# Altium schematic symbol library dvrk-s-pwm_2.SCHLIB: 58 symbols (part 1 of 2)
Pins are listed as number, name and electrical type; pins without a type are passive.

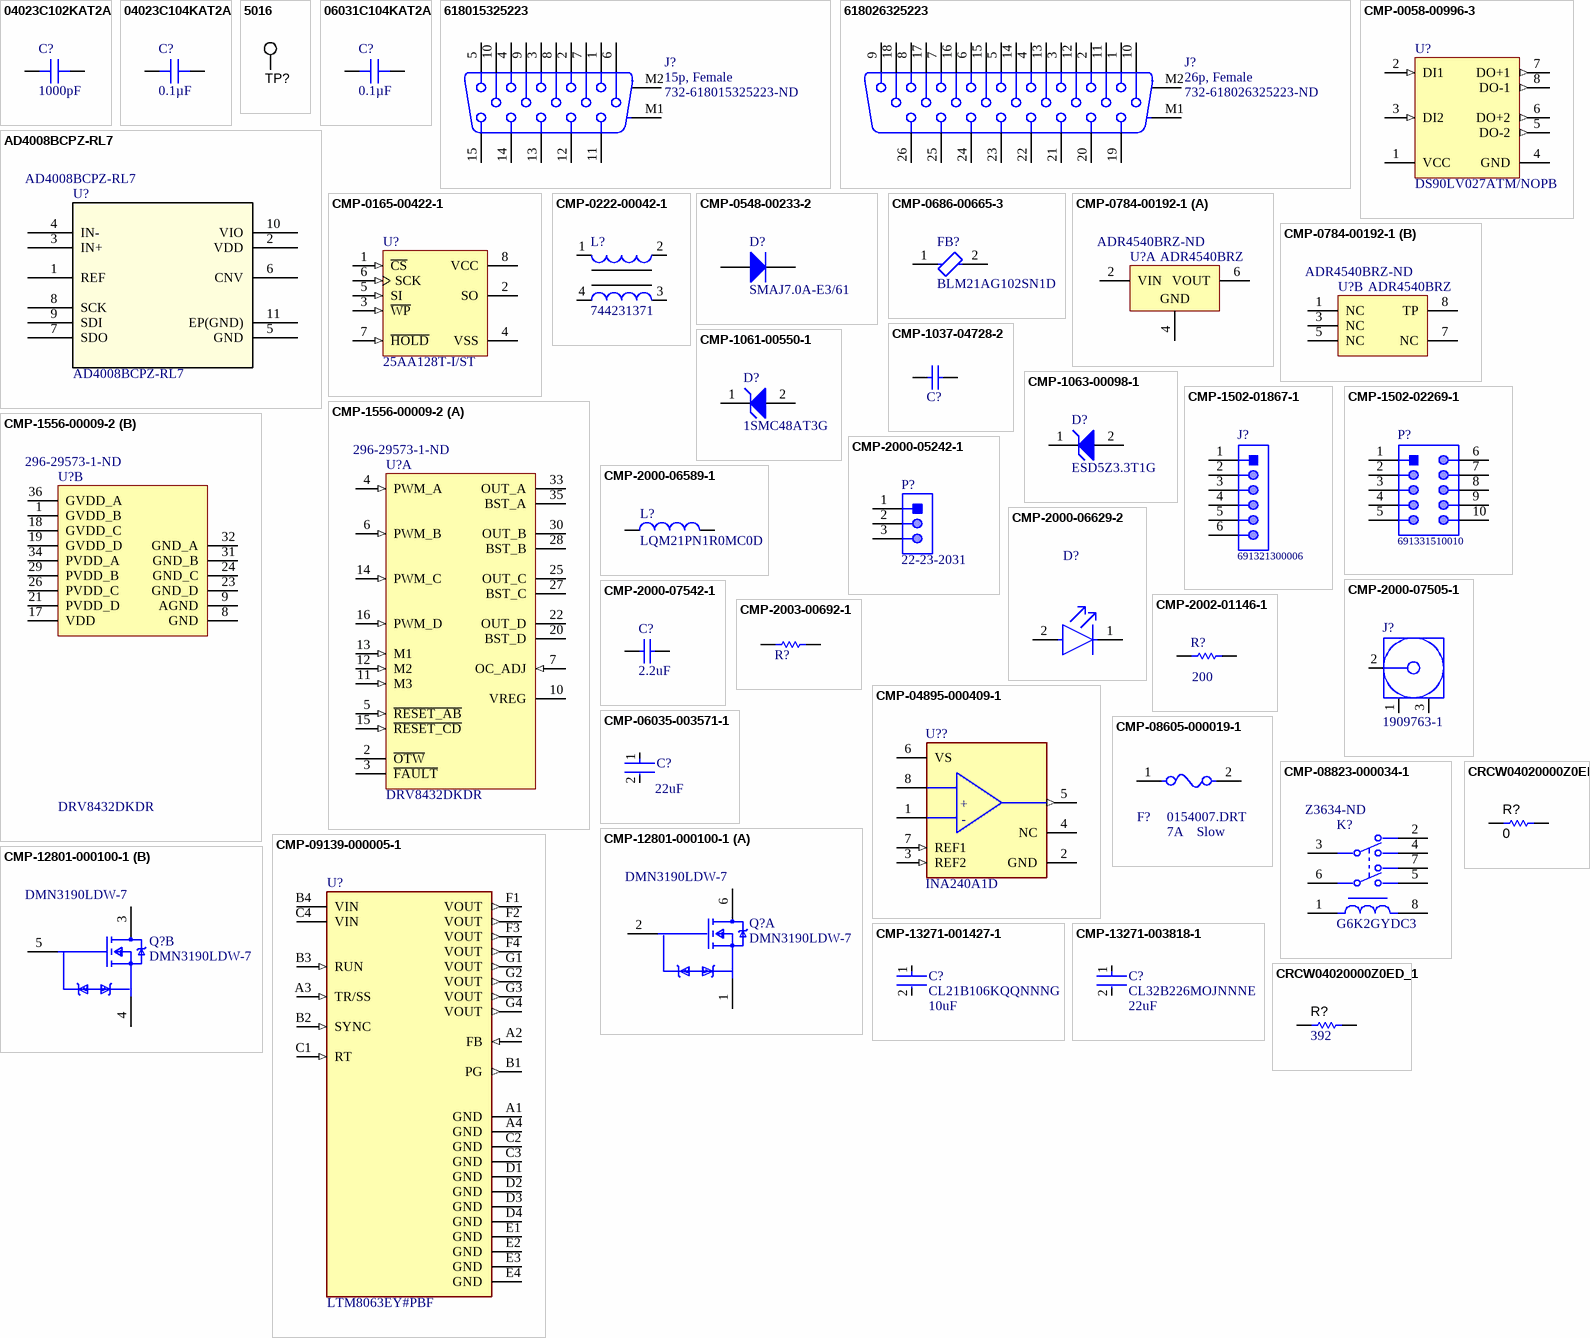
[diagram p0: symbols 04023C102KAT2A to CRCW04020000Z0ED_1]

## 04023C102KAT2A
designator C?, comment 1000pF
CAP CER 1000PF 25V X7R 0402; Manufacturer: AVX Corporation; Part Number: 04023C102KAT2A; Tolerance: ±10%; ComponentLink1Description: Datasheet; ComponentLink1URL: http://datasheets.avx.com/X7RDielectric.pdf; Applications: General Purpose; Capacitance: 1000pF; ComponentLink2Description: DigiKey Link; ComponentLink2URL: http://digikey.com/product-detail/en/avx-corporation/04023C102KAT2A/478-6193-1-ND/2391392; Device Package: 0402 (1005 Metric); LastUpdated: 2020-09-02 01:02:20.597000; Lifecycle Status: Active; Minimum Order: 1; Mounting Type: Surface Mount, MLCC; Operating Temperature: -55°C ~ 125°C; Package / Case: 0402 (1005 Metric); Packaging: TapeAndReel; PartId: 3384; Part Status: Active; Price: 0.01; Series: -; Size / Dimension: 0.039 L x 0.020 W (1.00mm x 0.50mm); Temperature Coefficient: X7R; Thickness (Max): 0.022 (0.56mm); Voltage - Rated: 25V; Supplier 1: DigiKey; Supplier Part Number 1: 478-6193-1-ND; Value: 1000pF
footprint CAP 0402_1005
footprint FP-GRM155-0_05-IPC_B
pins: 1, 2

## 04023C104KAT2A
designator C?, comment 0.1µF
CAP CER 0.1UF 25V X7R 0402; Part Number: 04023C104KAT2A; Manufacturer: AVX Corporation; Tolerance: ±10%; Value: 0.1µF; Applications: General Purpose; Capacitance: 0.1µF; ComponentLink1Description: Datasheet; ComponentLink1URL: http://datasheets.avx.com/X7RDielectric.pdf; ComponentLink2Description: DigiKey Link; ComponentLink2URL: http://digikey.com/product-detail/en/avx-corporation/04023C104KAT2A/478-7868-1-ND/3881491; Device Package: 0402 (1005 Metric); LastUpdated: 9/2/2020 1:02:21 AM; Lifecycle Status: Active; Minimum Order: 1; Mounting Type: Surface Mount, MLCC; Operating Temperature: -55°C ~ 125°C; Package / Case: 0402 (1005 Metric); Packaging: CutTape; PartId: 3190; Part Status: Active; Price: 0.13; Series: -; Size / Dimension: 0.039" L x 0.020" W (1.00mm x 0.50mm); Supplier 1: DigiKey; Supplier Part Number 1: 478-7868-1-ND; Temperature Coefficient: X7R; Thickness (Max): 0.022" (0.55mm); Voltage - Rated: 25V
footprint CAP 0402_1005
footprint FP-GRM155-0_05-IPC_B
pins: 1, 2

## 5016
designator TP?  (value not drawn)
Test Point, Compact, SMT; Manufacturer: Keystone; CompType: Test Point Loop; SymbolVersion: 2008-04-04; PartNumber: 5016; PackageReference: Testpoint_Keystone_Compact; RoHS: Y; MountType: SMT; ComponentLink1Description: Datasheet URL; ComponentLink1URL: http://www.keyelco.com/userAssets/store/files/5016.PDF; Publisher: Texas Instruments; LatestRevisionDate: 2016-09-14; Supplier 1: Digi-Key; Supplier Part Number 1: 36-5016TR-ND; Supplier 2: Mouser; Supplier Part Number 2: 534-5016
footprint Testpoint_Keystone_Compact
pins: 1

## 06031C104KAT2A
designator C?, comment 0.1µF
CAP CER 0.1UF 100V X7R 0603; Part Number: 06031C104KAT2A; Manufacturer: AVX Corporation; Tolerance: ±10%; Value: 0.1µF; Applications: General Purpose; Capacitance: 0.1µF; ComponentLink1Description: Datasheet; ComponentLink1URL: http://datasheets.avx.com/X7RDielectric.pdf; ComponentLink2Description: DigiKey Link; ComponentLink2URL: http://digikey.com/product-detail/en/avx-corporation/06031C104KAT2A/478-10047-1-ND/6564270; Device Package: 0603 (1608 Metric); LastUpdated: 9/2/2020 1:03:14 AM; Lifecycle Status: Active; Minimum Order: 1; Mounting Type: Surface Mount, MLCC; Operating Temperature: -55°C ~ 125°C; Package / Case: 0603 (1608 Metric); Packaging: TapeAndReel; PartId: 14077; Part Status: Active; Price: 0.03; Series: -; Size / Dimension: 0.063" L x 0.032" W (1.60mm x 0.81mm); Supplier 1: DigiKey; Supplier Part Number 1: 478-10047-1-ND; Temperature Coefficient: X7R; Thickness (Max): 0.037" (0.94mm); Voltage - Rated: 100V
footprint CAP 0603_1608
footprint FP-GRM188-0_1-e0_2_0_55-IPC_B
pins: 1, 2

## 618015325223
designator J?, comment 15p, Female  Supplier Part Number 1: 732-618015325223-ND
WR-DSUB Female High Density Angled PCB Connector without Hex Screw, 15p; PartNumber: 618015325223; Manufacturer: Wurth Electronics; PinNumber: 15; Published: June 2016; Publisher: Wurth Elektronik; ComponentLink1Description: Manufacturer; ComponentLink1URL: http://www.we-online.de; ComponentLink2Description: Datasheet; ComponentLink2URL: http://katalog.we-online.de/em/datasheet/6180xx325223.pdf; Supplier 1: Digi-Key; Manufacturer Part Number: 618015325223; RoHS: Yes; Category: D-Sub Connectors; Stock 1: 157; Pricing 1: 1=4.02000, 10=3.81000, 50=3.38400, 100=2.95200, 250=2.53200, 500=2.25600 (USD); RoHS Compliant: Yes
footprint 618015325223 (15 pins, right angled with Rivet)
pins: 1, 2, 3, 4, 5, 6, 7, 8, 9, 10, 11, 12, 13, 14, 15, M1, M2

## 618026325223
designator J?, comment 26p, Female  Supplier Part Number 1: 732-618026325223-ND
WR-DSUB Female High Density Angled PCB Connector without Hex Screw, 26p; PartNumber: 618026325223; Manufacturer: Wurth Electronics; PinNumber: 26; Published: June 2016; Publisher: Wurth Elektronik; ComponentLink1Description: Manufacturer; ComponentLink1URL: http://www.we-online.de; ComponentLink2Description: Datasheet; ComponentLink2URL: http://katalog.we-online.de/em/datasheet/6180xx325223.pdf; system: connector; Supplier 1: Digi-Key; Manufacturer Part Number: 618026325223; RoHS: Yes; Stock 1: 325; Pricing 1: 1=8.10000, 10=7.69500, 50=7.15500, 100=6.75000, 250=6.21000, 500=5.40002 (USD); RoHS Compliant: Yes
footprint 618026325223 (26 pins, right angled with Rivet)
pins: 1, 2, 3, 4, 5, 6, 7, 8, 9, 10, 11, 12, 13, 14, 15, 16, 17, 18, 19, 20, 21, 22, 23, 24, 25, 26, M1, M2

## AD4008BCPZ-RL7
designator U?
16-Bit, 2 MSPS/1 MSPS/500 kSPS, / Precision, Pseudo Differential, SAR ADCs; Value: Value; Type: Type; RefDes: RefDes; Supplier 1: Arrow Electronics; Supplier Part Number 1: AD4008BCPZ-RL7
footprint CP_10_9
pins: 1 REF, 2 VDD, 3 IN+, 4 IN-, 5 GND, 6 CNV, 7 SDO, 8 SCK, 9 SDI, 10 VIO, 11 EP(GND)

## CMP-0058-00996-3
designator U?, comment DS90LV027ATM/NOPB
LVDS Dual High Speed Differential Driver, 8-pin Narrow SOIC, Pb-Free; Manufacturer: Texas Instruments; Manufacturer: TI National Semiconductor; PowerWise: N; CompType: Interface IC; PackageTopMarking: NSZXTT*LV27A*TM; ComponentLink1Description: Datasheet URL; Code_JEDEC: MS-012-AA; PinCount: 8; PackageDescription: SOIC Narrow, 4.9 x 3.9 x 1.45mm, 8 Lead, 1.27mm Pitch; RoHS: Y; ComponentLink1URL: http://www.ti.com/general/docs/lit/getliterature.tsp?genericPartNumber=DS90LV027A&fileType=pdf; PackageReference: D0008A; Code_IPC: SOIC127P600-8; Manufacturer Part Number: DS90LV027ATM/NOPB
footprint D0008A_L (SOIC, 8-Leads, Body 5x4mm, Pitch 1.27mm, IPC High Density)
footprint D0008A_N (SOIC, 8-Leads, Body 5x4mm, Pitch 1.27mm, IPC Medium Density)
footprint D0008A_M (SOIC, 8-Leads, Body 5x4mm, Pitch 1.27mm, IPC Low Density)
pins: 1 VCC (power), 2 DI1 (in), 3 DI2 (in), 4 GND (power), 5 DO-2 (out), 6 DO+2 (out), 7 DO+1 (out), 8 DO-1 (out)

## CMP-0165-00422-1
designator U?, comment 25AA128T-I/ST
128K SPI Bus Serial EEPROM, 8-Pin TSSOP, Industrial Temperature, Tape and Reel; Manufacturer: Microchip; PackageVersion: revBB, Aug-2009; PackageDescription: 8-Lead Plastic Thin Shrink Small Outline (ST) - 4.4mm Body [TSSOP]; Code_JEDEC: MO-153; DatasheetVersion: revD, Jun-2009; PackageReference: TSSOP-ST8; Manufacturer Part Number: 25AA128T-I/ST
footprint TSSOP-ST8_M (TSOP, 8-Leads, Body 3x4.4mm, Pitch 0.65mm, IPC Low Density)
footprint TSSOP-ST8_L (TSOP, 8-Leads, Body 3x4.4mm, Pitch 0.65mm, IPC High Density)
footprint TSSOP-ST8_N (TSOP, 8-Leads, Body 3x4.4mm, Pitch 0.65mm, IPC Medium Density)
pins: 1 ~{CS} (in), 2 SO (hiz), 3 ~{WP} (in), 4 VSS (power), 5 SI (in), 6 SCK (in), 7 ~{HOLD} (in), 8 VCC (power)

## CMP-0222-00042-1
designator L?, comment 744231371
SMD Common Mode Noise Suppressor WE-CNSW, Z = 370 Ohm; Manufacturer: Wurth Electronics; Impedance: 370 Ohm; ComponentLink2URL: http://www.we-online.de/katalog/media/pdf/744231371.pdf; ComponentLink1Description: Manufacturer Link; PackageReference: WE-CNSW-0805; PackageDescription: SMD Inductor, 4-Leads, Body 1.4 x 2.2 mm; ComponentLink2Description: Datasheet; DatasheetVersion: ver 4, Nov-2010; ComponentLink1URL: http://www.we-online.com; PackageVersion: 2010; Manufacturer Part Number: 744231371
footprint WE-CNSW-0805 (SMD Inductor, 4-Leads, Body 1.4x2.2x1.4 mm)
pins: 1, 2, 3, 4

## CMP-0548-00233-2
designator D?, comment SMAJ7.0A-E3/61
Transient Voltage Suppressor, 6.40 to 231 V, 7 V Stand-off Voltage, Uni-Directional, -55 to 155 degC, 2-pin DO-214AC, Pb-Free, Tape and Reel; Manufacturer: Vishay Semiconductor; Manufacturer: Vishay Semiconductors; IFSM: 40 A; ID (uA): 200; VWM (V): 7; PPPM (W): 400, 300; VBR Uni-Directional (V): 6.4 to 231; Operating Junction and Storage Temperature Range: -55 to 150 degC; ComponentLink2Description: Datasheet; ComponentLink3Description: Package Specification; ComponentLink1URL: http://www.vishay.com/; PackageReference: DO-214AC-2; ComponentLink1Description: Manufacturer URL; PartNumber: SMAJ7.0A-E3/61; Packing: Tape and Reel; Mounting Technology: Surface Mount; PackageDescription: 2-Pin DO-214AC (SMA), Body 4.245 x 2.665 mm; ComponentLink2URL: http://www.vishay.com/docs/88390/smaj50a.pdf; RoHS: TRUE; ComponentLink3URL: http://www.vishay.com/docs/88390/smaj50a.pdf; DatasheetVersion: 12/8/2013; Manufacturer Part Number: SMAJ7.0A-E3/61
footprint VISH-DO-214AC-2_L (DO-214AC, 2-Leads, Body 4.5x2.79mm, IPC High Density)
footprint VISH-DO-214AC-2_N (DO-214AC, 2-Leads, Body 4.5x2.79mm, IPC Medium Density)
footprint VISH-DO-214AC-2_M (DO-214AC, 2-Leads, Body 4.5x2.79mm, IPC Low Density)
pins: 1 K, 2 A

## CMP-0686-00665-3
designator FB?, comment BLM21AG102SN1D
Chip Ferrite Bead, 0805, 1000Ω @ 100MHz, 0.27Ω, 25%, 600mA; Manufacturer: Murata; Material: Steel; Number of Lines: 1; Current Rating: 500mA; Max DC Current: 200mA; Impedance: 1kR; DC Resistance (DCR): 280mR; Shielding: Unshielded; Length: 2mm; Max Current Rating: 600mA; Max Operating Temperature: 125°C; Lead Free: Lead Free; Test Frequency: 100MHz; Number of Pins: 2; Height: 0.85mm; Package Quantity: 1; Termination: SMD/SMT; Depth: 1.25mm; Radiation Hardening: No; Case Code (Metric): 2012; Tolerance: 25%; Core Material: Ferrite; Min Operating Temperature: -55°C; Case Code (Imperial): 0805; Weight: 0.000194oz; DC Current: 200mA; Case/Package: 0805; REACH SVHC: No SVHC; Frequency: 100MHz; Military Standard: Not; Number of Circuits: 1; Width: 1.25mm; Packaging: Tape and Reel; Manufacturer Part Number: BLM21AG102SN1D
footprint FP-BLM21-0_2-t0_85-e0_5-MFG
footprint FP-BLM21-0_2-t0_85-e0_5-IPC_C
footprint FP-BLM21-0_2-t0_85-e0_5-IPC_B
footprint FP-BLM21-0_2-t0_85-e0_5-IPC_A
pins: 1, 2

## CMP-0784-00192-1
designator U?, comment ADR4540BRZ  Supplier Part Number 1: ADR4540BRZ-ND
Ultralow Noise, High Accuracy Voltage Reference, 4.096 V Output, 3 to 15 V Supply, Industrial, 8-pin SOIC (R-8), Tube; Manufacturer: Analog Devices; Max V Supply (V): 15; Min V Supply (V): 3; Vout: 4.096V; Ref Out TC (ppm/C): 2; ComponentLink4URL: Product URL:http://www.analog.com/en/special-linear-functions/voltage-references/adr4540/products/product.html; Mounting Technology: Surface Mount; ComponentLink1Description: Manufacturer URL; PackageDescription: 8-Pin Standard Small Outline Package, Body 4.9 x 3.9 mm, Pitch 1.27 mm; ComponentLink2URL: http://www.analog.com/static/imported-files/data_sheets/ADR4520_4525_4530_4533_4540_4550.pdf; ComponentLink1URL: http://www.analog.com/en/index.html; DatasheetVersion: Rev. 0; ComponentLink4Description: URL Link1; Operating Temp Range: -40 to 125 degC; PartNumber: ADR4540BRZ; ComponentLink2Description: Datasheet; ComponentLink3URL: http://www.analog.com/static/imported-files/packages/PKG_PDF/SOIC_Narrow%20(R)/R_8.pdf; ComponentLink3Description: Package Specification; PackageVersion: 060506-A, 06/2006; Packing: Tube; PackageReference: R-8; Code_JEDEC: MS-012-AA; Supplier 1: Digi-Key; Manufacturer Part Number: ADR4540BRZ
footprint ADI-R-8_M (SOIC, 8-Leads, Body 4.9x3.9mm, Pitch 1.27mm, IPC Low Density)
footprint ADI-R-8_L (SOIC, 8-Leads, Body 4.9x3.9mm, Pitch 1.27mm, IPC High Density)
footprint ADI-R-8_N (SOIC, 8-Leads, Body 4.9x3.9mm, Pitch 1.27mm, IPC Medium Density)
part A pins: 2 VIN (power) "Input Voltage Connection.", 4 GND (power) "Ground.", 6 VOUT (power) "Output Voltage."
part B pins: 1 NC "No Connect. This pin is not connected internally.", 3 NC "No Connect. This pin is not connected internally.", 5 NC "No Connect. This pin is not connected internally.", 7 NC "No Connect. This pin is not connected internally.", 8 TP "Test Pin. Do not connect."

## CMP-1037-04728-2
designator C?, comment 12061C105KAT2A  (value not drawn)
Chip Capacitor, 1 uF, +/- 10%, 100 V, -55 to 125 degC, 1206 (3216 Metric), RoHS, Tape and Reel; Manufacturer: AVX; Manufacturer: Kyocera AVX; Manufacturer: Murata; Manufacturer Part Number: GRM31CR72A105KA01L; Capacitance: 1µF; Dielectric: X7R; Rated Voltage: 100V; Mounting Technology: SurfaceMount; Package Description: 2-Pin Surface Mount Device, Body 3.2 x 1.6 mm; Case Size/Dimension: 1206; Datasheet Version: 07/2016; Manufacturer URL: http://www.avx.com/; Package Reference: 1206; Datasheet URL: http://datasheets.avx.com/X7RDielectric.pdf; Tolerance (%): ±10%; Manufacturer Part Number: 12061C105KAT2A
footprint CAPC3216X180X50LL20T25 (Chip Capacitor, 2-Leads, Body 3.20x1.60mm, IPC High Density)
footprint CAPC3216X180X50ML20T25 (Chip Capacitor, 2-Leads, Body 3.40x1.80mm, IPC Low Density)
footprint CAPC3216X180X50NL20T25 (Chip Capacitor, 2-Leads, Body 3.20x1.60mm, IPC Medium Density)
pins: 1, 2

## CMP-1061-00550-1
designator D?, comment 1SMC48AT3G
1500 W Peak Power Zener Transient Voltage Suppressor, Unidirectional, 2-Pin SMC, Pb-Free, Tape and Reel; Manufacturer: On Semiconductor; IR Max (uA): 5; PPK Max (W): 1500; V(BR) Typ (V): 56.1; RoHS: Pb-Free; Packing: Tape and Reel; ComponentLink1Description: Manufacturer URL; ComponentLink3URL: http://www.onsemi.com/pub_link/Collateral/403-03.PDF; PackageReference: SMC-2-403-03; PackageDescription: 2-Pin Small Molded Package, J-Bend Lead, Body 5.845 x 6.855 mm; ComponentLink2URL: http://www.onsemi.com/pub_link/Collateral/1SMC5.0AT3-D.PDF; PackageVersion: Rev. E, 08/2005; Mounting Technology: Surface Mount; DatasheetVersion: Rev. 8; PartNumber: 1SMC48AT3G; ComponentLink3Description: Package Specification; ComponentLink2Description: Datasheet; ComponentLink1URL: http://www.onsemi.com/; Direction: Unidirectional; Manufacturer: ON Semiconductor; Manufacturer Part Number: 1SMC48AT3G
footprint ONSC-SMC-2-403-03_V (Molded, 2-Leads, Body 6.86x5.84mm)
pins: 1 K, 2 A

## CMP-1063-00098-1
designator D?, comment ESD5Z3.3T1G
Transient Voltage Suppressor, Micro-Packaged Diode for ESD Protection, 2-Pin SOD-523, Pb-Free, Tape and Reel; Manufacturer: On Semiconductor; VRWM Max (V): 3.3; Number of Lines: 1; V(BR) Min (V): 5; PPK Max (W): 158; Direction: Unidirectional; IR Max (uA): 0.05; PackageReference: SOD-523-2-502-01; PackageVersion: Rev. E, 09/2010; RoHS: Pb-Free; ComponentLink3Description: Package Specification; Packing: Tape and Reel; ComponentLink1URL: http://www.onsemi.com/; DatasheetVersion: Rev. 10; ComponentLink2Description: Datasheet; Mounting Technology: Surface Mount; ComponentLink2URL: http://www.onsemi.cn/pub_link/Collateral/ESD5Z2.5T1-D.PDF; PartNumber: ESD5Z3.3T1G; PackageDescription: 2-Pin SOD, Body 1.2 x 0.8 mm; ComponentLink3URL: http://www.onsemi.com/pub_link/Collateral/502-01.PDF; ComponentLink1Description: Manufacturer URL; Supplier 1: Digi-Key; Supplier Part Number 1: ESD5Z3.3T1GOSCT-ND; Manufacturer: ON Semiconductor; Manufacturer Part Number: ESD5Z3.3T1G
footprint ONSC-SOD-523-2-502-01_V (SOD, 2-Leads, Body 1.2x0.8mm)
pins: 1 K, 2 A

## CMP-1502-01867-1
designator J?, comment 691321300006
Serie 321 - 3.81mm Vertical PCB Header WR-TBL, 6 pin; Manufacturer: Wurth Elektronik; Manufacturer: Wurth Electronics; Gender: Male; Pin Number: 6; Pitch: 3.81mm; Manufacturer URL: http://www.we-online.de; Part Number: 691321300006; Datasheet URL: http://katalog.we-online.de/em/datasheet/6913213000xx.pdf; Mounting Technology: THT; Packaging: Box; Publisher: WurthElektronik; Operating Temperature: -40to105degC; Package Reference: 691321300006; Manufacturer Part Number: 691321300006
footprint 691321300006 (Vertical PCB Header, pitch 3.81mm, 06p)
pins: 1, 2, 3, 4, 5, 6

## CMP-1502-02269-1
designator P?, comment 691331510010
Serie 3315 - 5.08mm Double Level Horizontal Male PCB Header with Flanges WR-TBL, 10 pin; Manufacturer: Wurth Elektronik; Manufacturer: Wurth Electronics; Pin Number: 10; Datasheet URL: http://katalog.we-online.de/em/datasheet/6913315100xx.pdf; Part Number: 691331510010; Gender: Male; Manufacturer URL: http://www.we-online.de; Packaging: Box; Pitch: 5.08mm; Operating Temperature: -40to105degC; Publisher: WurthElektronik; Mounting Technology: THT; Package Reference: 691331510010; Manufacturer Part Number: 691331510010
footprint 691331510010 (5,08mm - PCB - Dual row - Horizontal - 10p)
pins: 1, 2, 3, 4, 5, 6, 7, 8, 9, 10

## CMP-1556-00009-2
designator U?, comment DRV8432DKDR  Supplier Part Number 1: 296-29573-1-ND
12 A Dual Brushed DC or Single Bipolar Stepper Motor Driver (PWM Ctrl), 0 to 52.5 V, -40 to 85 degC, 36-pin SOP (DKD36), Green (RoHS & no Sb/Br); Manufacturer: Texas Instruments; Vs(Min)(V): 0; rDS (ON) (LS + HS)(mOhms): 220; RMS Output Current(A): 7; Vs(Max)(V): 52.5; Peak Output Current(A): 12; Operating Supply Voltage: 50V; Output Current: 7A; Max Supply Voltage: 52.5V; Min Supply Voltage: 0V; Number of Outputs: 2; Nominal Supply Current: 10.5mA; Power Dissipation: 5W; Max Output Current: 12A; Fault Protection: Over Temperature,Short Circuit; DatasheetVersion: SLES242D; ComponentLink1URL: http://www.ti.com/; ComponentLink1Description: Manufacturer URL; PackageVersion: 4204421-2/K, 11/2013; ComponentLink3Description: Package Specification; Package Reference: DKD0036A; ComponentLink2Description: Datasheet; PackageDescription: 36-Pin Plastic Small Outline, Body 15.9 x 11 mm, Pitch 0.65 mm; Control I/F: PWM; Eco-Plan: Green (RoHS & no Sb/Br); Mounting Technology: Surface Mount; ComponentLink2URL: http://www.ti.com/general/docs/lit/getliterature.tsp?genericPartNumber=DRV8432&fileType=pdf; PartNumber: DRV8432DKDR; ComponentLink3URL: http://www.ti.com/lit/ml/mpds126j/mpds126j.pdf; Supplier 1: Digi-Key; Manufacturer Part Number: DRV8432DKDR; RoHS: Yes; Category: Amplifiers - Audio; Stock 1: 927; Pricing 1: 1=12.21000, 10=11.03000, 25=10.51720, 100=8.72170, 250=7.95212 (USD); Mount: Surface Mount; Case/Package: HSSOP; Number of Pins: 36; Min Operating Temperature: -40°C; Max Operating Temperature: 85°C; Package Quantity: 500; Packaging: Tape and Reel; Supply Current: 10.5mA; Series: DRV8432; Interface: PWM; Output Current per Channel: 7A; Radiation Hardening: No; Lead Free: Lead Free; RoHS Compliant: Yes; ComponentLink4URL: https://datasheet.ciiva.com/15109/getdatasheetpartid-482142-15109561.pdf?src-supplier=Verical; ComponentLink4Description: https://datasheet.ciiva.com/15109/getdatasheetpartid-482142-15109561.pdf?src-supplier=Verical; ComponentLink5URL: https://datasheet.ciiva.com/1959/drv8432-1959978.pdf?src-supplier=Digi-Key; ComponentLink5Description: https://datasheet.ciiva.com/1959/drv8432-1959978.pdf?src-supplier=Digi-Key; ComponentLink6URL: https://datasheet.ciiva.com/41457/001013555-da-01-en-ic-bridge-driver-drv8432dkdr-ssop-36-tid-41457289.pdf?src-supplier=Conrad; ComponentLink6Description: https://datasheet.ciiva.com/41457/001013555-da-01-en-ic-bridge-driver-drv8432dkdr-ssop-36-tid-41457289.pdf?src-supplier=Conrad; ComponentLink7URL: https://datasheet.ciiva.com/3228/drv8432-3228999.pdf?src-supplier=Avnet; ComponentLink7Description: https://datasheet.ciiva.com/3228/drv8432-3228999.pdf?src-supplier=Avnet; ComponentLink8URL: https://datasheet.ciiva.com/1959/drv8432-1959979.pdf?src-supplier=Digi-Key; ComponentLink8Description: https://datasheet.ciiva.com/1959/drv8432-1959979.pdf?src-supplier=Digi-Key; ComponentLink9URL: https://datasheet.ciiva.com/1959/drv8432-1959980.pdf?src-supplier=Digi-Key; ComponentLink9Description: https://datasheet.ciiva.com/1959/drv8432-1959980.pdf?src-supplier=Digi-Key
footprint DKD0036A_N (SOP, 36-Leads, Body 16x11.1mm, Pitch 0.65mm, IPC Medium Density)
footprint DKD0036A_M (SOP, 36-Leads, Body 16x11.1mm, Pitch 0.65mm, IPC Low Density)
footprint DKD0036A_L (SOP, 36-Leads, Body 16x11.1mm, Pitch 0.65mm, IPC High Density)
part A pins: 2 ~{OTW} (oc) "Overtemperature warning signal, open-drain, active-low. An internal pull-up resistor to VREG (3.3 V) is provided on output. Level compliance for 5-V logic can be obtained by adding external pull-up resistor to 5 V", 3 ~{FAULT} (oc) "Fault signal, open-drain, active-low. An internal pull-up resistor to VREG (3.3 V) is provided on output. Level compliance for 5-V logic can be obtained by adding external pull-up resistor to 5 V", 4 PWM_A (in) "Input signal for half-bridge A", 5 ~{RESET_AB} (in) "Reset signal for half-bridge A and half-bridge B, active-low", 6 PWM_B (in) "Input signal for half-bridge B", 7 OC_ADJ (in) "Analog overcurrent programming pin, requires resistor to AGND", 10 VREG "Digital regulator supply filter pin requires 0.1-uF capacitor to AGND.", 11 M3 (in) "Reserved mode selection pin, AGND connection is recommended", 12 M2 (in) "Mode selection pin", 13 M1 (in) "Mode selection pin", 14 PWM_C (in) "Input signal for half-bridge C", 15 ~{RESET_CD} (in) "Reset signal for half-bridge C and half-bridge D, active-low", 16 PWM_D (in) "Input signal for half-bridge D", 20 BST_D "High side bootstrap supply (BST), external capacitor to OUT_D required", 22 OUT_D (hiz) "Output, half-bridge D", 25 OUT_C (hiz) "Output, half-bridge C", 27 BST_C "High side bootstrap supply (BST), external capacitor to OUT_C required", 28 BST_B "High side bootstrap supply (BST), external capacitor to OUT_B required", 30 OUT_B (hiz) "Output, half-bridge B", 33 OUT_A (hiz) "Output, half-bridge A", 35 BST_A "High side bootstrap supply (BST), external capacitor to OUT_A required"
part B pins: 1 GVDD_B (power) "Gate-drive voltage supply", 8 GND (power) "Ground", 9 AGND (power) "Analog ground", 17 VDD (power) "Power supply for digital voltage regulator requires capacitor to ground for decoupling.", 18 GVDD_C (power) "Gate-drive voltage supply", 19 GVDD_D (power) "Gate-drive voltage supply", 21 PVDD_D (power) "Power supply input for half-bridge D requires close decoupling capacitor to ground.", 23 GND_D (power) "Power ground for half-bridge D requires close decoupling capacitor to ground", 24 GND_C (power) "Power ground for half-bridge C requires close decoupling capacitor to ground", 26 PVDD_C (power) "Power supply input for half-bridge C requires close decoupling capacitor to ground.", 29 PVDD_B (power) "Power supply input for half-bridge B requires close decoupling capacitor to gound.", 31 GND_B (power) "Power ground for half-bridge B requires close decoupling capacitor to ground", 32 GND_A (power) "Power ground for half-bridge A requires close decoupling capacitor to ground", 34 PVDD_A (power) "Power supply input for half-bridge A requires close decoupling capacitor to ground.", 36 GVDD_A (power) "Gate-drive voltage supply"

## CMP-2000-05242-1
designator P?, comment 22-23-2031
Male Header, Pitch 2.54 mm, 1 x 3 Position, Height 8.18 mm, Tail Length 3.56 mm, RoHS, Bulk; Current Rating: 4A; Brand: Molex; Pitch: 2.54mm; Voltage Rating: 250V; Mounting Angle: Vertical; Type: Locking; Factory Pack Quantity: 16000; Tradename: KK; Housing Material: Nylon; Contact Material: Brass; Manufacturer URL: http://www.molex.com/; Termination Style: ThroughHole; Mounting Style: ThroughHole; Number of Positions: 3Position; Contact Gender: Pin(Male); Packaging: Bulk; Series: 6373; Datasheet Version: Sep-01; Contact Plating: Tin; Product: Headers; Datasheet URL: https://datasheet.ciiva.com/19472/232274-19472863.pdf; RoHS: Details; Product Category: Headers&WireHousings; Manufacturer: Molex; Number of Rows: 1Row; Manufacturer Part Number: 22-23-2031
footprint MOLX-22-23-2031_V (CONN, 3-Leads, Body 7.62x6.35mm, Pitch 2.54mm)
pins: 1, 2, 3

## CMP-2000-06589-1
designator L?, comment LQM21PN1R0MC0D
Chip Inductor, 1.0 uH, +/- 20%, -55 to 125 degC, 2-Pin SMD (0805), RoHS, Tape and Reel; Manufacturer: Murata; Rated Current-Max: 800mA; Inductance-Nom: 1H; DC Resistance: 0.19; Mounting Technology: SurfaceMount; Package Reference: 0805; Tolerance (%): 20%; Datasheet Version: 07/2014; Manufacturer URL: http://www.murata.com/; Package Description: 2-Pin Surface Mounted Device, Body 2 x 1.25 mm; Case Size/Dimension: 0805; Datasheet URL: https://datasheet.ciiva.com/3866/336lqm21pn1r0mc023-3866307.pdf; Manufacturer Part Number: LQM21PN1R0MC0D
footprint MURA-IND0805_H_0.55_L (Chip Inductor, 2-Leads, Body 2.2x1.45mm, IPC High Density)
footprint MURA-IND0805_H_0.55_M (Chip Inductor, 2-Leads, Body 2.2x1.45mm, IPC Low Density)
footprint MURA-IND0805_H_0.55_N (Chip Inductor, 2-Leads, Body 2.2x1.45mm, IPC Medium Density)
pins: 1, 2

## CMP-2000-06629-2
designator D?, comment LTST-S270KGKT  (value not drawn)
LED GREEN CLEAR CHIP SMD R/A; Manufacturer: Vishay Lite-On; Luminous Intensity: 71mcd; Test Current: 20mA; Dominant Wavelength: 571nm; Lens Style: Diffused; Forward Voltage: 2V; Reverse Voltage: 5V; Wavelength: 574nm; Power Rating: 75mW; Viewing Angle: 130°; Number of Elements: 1; Forward Current: 30mA; Lens Color: Colorless; Package Quantity: 1; Lead Free: Lead Free; Case Code (Imperial): 0603; Lens Transparency: Clear; Width: 1.15mm; Case Code (Metric): 1608; Packaging: Tape and Reel; Depth: 0.6mm; Radiation Hardening: No; Color: Green; Max Operating Temperature: 85°C; Case/Package: 0603; Min Operating Temperature: -55°C; Number of LEDs: 1; Power Dissipation: 75mW; Illumination Color: Green; Number of Pins: 2; Height: 0.6mm; Mount: Surface Mount; Length: 1.6mm; Supplier 1: Digi-Key; Supplier Part Number 1: 160-1478-1-ND; Manufacturer Part Number: LTST-S270KGKT
footprint FP-LTST-S270KGKT-MFG
pins: 1 C, 2 A

## CMP-2000-07505-1
designator J?, comment 1909763-1
Ultra Miniature Coaxial Connector Jack, 60 V, 50 Ohm, -40 to 90 degC, RoHS, Tape and Reel; Manufacturer: TE Connectivity; Manufacturer: TE Connectivity AMP; Gender: Female; PCB Mounting Orientation: Vertical; Body Material: LiquidCrystalPolymer; Case\/Package: SMD/SMT; Impedance: 50Ohm; Max Frequency: 6GHz; Body Plating: Gold; Dielectric Material: Polymer; Orientation: Straight; Mount: SurfaceMount; Length: 3mm; Packaging: TapeandReel; Connector Type: Jack; Lead Free: LeadFree; Package Quantity: 1; Termination: SMD/SMT; Contact Material: CopperAlloy; Fastening Type: Pull; RoHSCompliant: true; Max Operating Temperature: 90degC; Datasheet URL: http://www.te.com/commerce/DocumentDelivery/DDEController?Action=srchrtrv&DocNm=1909763&DocType=Customer+Drawing&DocLang=English; Contact Plating: Gold; Mounting Technology: SurfaceMount; Package Reference: TECO-1909763-1; Insulation Material: Thermoplastic; Min Operating Temperature: -40degC; Manufacturer URL: http://www.te.com/; ELV: Compliant; Datasheet Version: Rev. B2, 11/2015; Radiation Hardening: No; Package Description: 3-Pin Surface Mount Device, Body 2.6 x 2.6 mm; Housing Colour: Beige; Manufacturer Part Number: 1909763-1
footprint TECO-1909763-1_V (SMD, 3-Leads, Body 2.6x2.6mm, Height 1.25mm)
pins: 1, 2, 3

## CMP-2000-07542-1
designator C?, comment Capacitance: 2.2uF  (hidden comment: 12061C225KAT2A)
Chip Capacitor, 2.2 uF, +/- 10%, 100 V, -55 to 125 degC, 1206 (3216 Metric), RoHS, Tape and Reel; Manufacturer: AVX; Manufacturer: Kyocera AVX; Case\/Package: 1206; Voltage: 100V; Dielectric: X7R; Thickness: 0.037inch; Case Code (Metric): 3216; Mounting Technology: SurfaceMount; Tolerance: 10%; Package Quantity: 2500; Mount: SurfaceMount; REACH SVHC: NoSVHC; Case Code (Imperial): 1206; Datasheet URL: http://datasheets.avx.com/X7RDielectric.pdf; Voltage Rating: 100V; Package Reference: 1206; Termination: SMD/SMT; Max Operating Temperature: 125degC; Depth: 1.6mm; Voltage Rating (DC): 100V; Width: 0.063inch; Min Operating Temperature: -55degC; RoHSCompliant: true; Packaging: TapeandReel; Package Description: 2-Pin Surface Mount Device, Body 3.2 x 1.6 mm; Datasheet Version: 03/2017; Manufacturer URL: http://www.avx.com/; Lead Free: LeadFree; Length: 3.2mm; Manufacturer Part Number: 12061C225KAT2A
footprint CAPC3216X180X50LL20T25 (Chip Capacitor, 2-Leads, Body 3.20x1.60mm, IPC High Density)
footprint CAPC3216X180X50ML20T25 (Chip Capacitor, 2-Leads, Body 3.40x1.80mm, IPC Low Density)
footprint CAPC3216X180X50NL20T25 (Chip Capacitor, 2-Leads, Body 3.40x1.80mm, IPC Medium Density)
pins: 1, 2

## CMP-2002-01146-1
designator R?, comment value 200  (hidden comment: ERJ2RKF33R0X)
Manufacturer: Panasonic; Manufacturer Part Number: ERJ-2RKF33R0X; Part Number: ERJ2RKF33R0X
footprint RESC1005X40X25LL05T05 (Chip Resistor, 2-Leads, Body 1.00x0.50mm, IPC High Density)
footprint RESC1005X40X25NL05T05 (Chip Resistor, 2-Leads, Body 1.00x0.50mm, IPC Medium Density)
footprint RESC1005X40X25ML05T05 (Chip Resistor, 2-Leads, Body 1.00x0.50mm, IPC Low Density)
pins: 1, 2
1 alternate drawing of the same symbol

## CMP-2003-00692-1
designator R?, comment ERJ-8RQF8R2V  (value not drawn)
RES 1206 8.2 Ohm 0.25 W 1%; Manufacturer: Panasonic; Manufacturer Part Number: ERJ8RQF8R2V; Value: 8.2; Part Number: ERJ-8RQF8R2V
footprint RESC3216X70X50NL05T20 (Chip Resistor, 2-Leads, Body 3.20x1.60mm, IPC Medium Density)
footprint RESC3216X70X50LL05T20 (Chip Resistor, 2-Leads, Body 3.20x1.60mm, IPC High Density)
pins: 1, 2
1 alternate drawing of the same symbol

## CMP-04895-000409-1
designator U??, comment INA240A1D
IC CURR SENSE 1 CIRCUIT 8SOIC; Manufacturer: Texas Instruments; Input Offset Voltage (Vos): 5uV; Number of Circuits: 1; Slew Rate: 2V/µs; Input Bias Current: 90uA; -3db Bandwidth: 400kHz; Operating Supply Current: 1.8mA; Packaging: Rail/Tube; Min Operating Temperature: -40°C; Max Operating Temperature: 125°C; RoHS Compliant: Yes; Case/Package: SOIC; Mount: Surface Mount; Manufacturer Part Number: INA240A1D
footprint FP-D0008A-IPC_A
footprint FP-D0008A-IPC_B
footprint FP-D0008A-IPC_C
footprint FP-D0008A-MFG
pins: 1 IN- (hiz), 2 GND (power), 3 REF2 (in), 4 NC, 5 OUT (out), 6 VS (power), 7 REF1 (in), 8 IN+ (hiz)
text: +; -

## CMP-06035-003571-1
designator C?, comment Capacitance: 22uF  (hidden comment: KRM55WR72A226MH01L)
CAP CER 22UF 100V X7R SMD; Manufacturer: Murata; Tolerance: 20%; Lead/Base Style: J-Lead; Packaging: Cut Tape; Mount: Surface Mount; Min Operating Temperature: -55°C; Max Operating Temperature: 125°C; Case/Package: SMD/SMT; Voltage Rating: 100V; Supplier 1: Arrow Electronics; Supplier Part Number 1: KRM55WR72A226MH01L; Manufacturer Part Number: KRM55WR72A226MH01L
footprint FP-KRM55W-6_1_5_3_6_7_1_2-MFG
pins: 1, 2

## CMP-08605-000019-1
designator F?, comment 0154007.DRT  Fuse Current: 7A  Fuse Blow Speed: Slow
FUSE BRD MNT 7A 72VAC 60VDC 2SMD; Manufacturer: Littelfuse Inc; Manufacturer: Littelfuse; Max Fuse Dc Voltage: 60V; Max Fuse Ac Voltage: 72V; Manufacturer Part Number: 0154007.DRT; RoHS: TRUE; Temperature Range High: +125°C; Temperature: -55°C to +125°C; Digikey Description: FUSE BRD MNT 7A 72VAC 60VDC 2SMD; Device Class L3: unset; Package: 0154; Lead Free: Yes; Temperature Range Low: -55°C; Automotive: No; Height: 3.81mm; Octopart: https://octopart.com/0154007.drt-littelfuse-19644006; Device Class L2: Fuses; Category: Fuse; ComponentLink2URL: https://www.littelfuse.com/~/media/electronics/datasheets/fuses/littelfuse_fuse_154_154t_154l_154tl_datasheet.pdf.pdf; ComponentLink2Description: Datasheet; Device Class L1: Circuit Protection; Mouser Description: Surface Mount Fuses ACS SMF OMNI-BLOK SB RoHS 7A
footprint FP-0154-MFG
pins: 1, 2

## CMP-08823-000034-1
designator K?, comment G6K2GYDC3  Supplier Part Number 1: Z3634-ND
RELAY TELECOM DPDT 1A 3VDC; Manufacturer: Omron; Manufacturer Part Number: G6K-2G-Y-DC3; Coil Resistance: 91R; Coil Type: Non-Latching; Max Voltage Rating (DC): 60V; Coil Voltage (DC): 3V; Release Time: 3ms; Coil Current: 33mA; Power Consumption: 100mW; Max Voltage Rating (AC): 125V; Min Operating Temperature: -40°C; Packaging: Rail/Tube; Series: G6K; Contact Material: Gold; Number of Pins: 8; Termination: Gull Wing; Lead Free: Lead Free; Throw Configuration: DPDT; Max Operating Temperature: 70°C; Relay Type: Telecom; Coil Power: 100mW; Contact Current Rating: 1A; Weight: 0.7g; Mount: Surface Mount; Max Current Rating: 1A; Package Quantity: 500; Radiation Hardening: No; Operate Time: 3ms; Supplier 1: Digi-Key; RoHS: Yes; Category: Signal Relays; Stock 1: 11994; Pricing 1: 1=4.45000, 10=4.16900, 25=3.70600, 40=3.52050, 80=3.33525, 230=2.96470, 500=2.77940, 1000=2.59411 (USD); ComponentLink1URL: https://datasheet.ciiva.com/30212/81en-g6k-30212142.pdf?src-supplier=Onlinecomponents.com; ComponentLink1Description: https://datasheet.ciiva.com/30212/81en-g6k-30212142.pdf?src-supplier=Onlinecomponents.com
footprint FP-G6K2GYDC3-MFG
pins: 1, 2, 3, 4, 5, 6, 7, 8

## CMP-09139-000005-1
designator U?, comment LTM8063EY#PBF
DC DC CONVERTER 0.8-15V; Manufacturer: Analog Devices; Manufacturer: Analog Devices / Linear Technology; Standoff Height: 0.3mm; Output Current: 2uA; Switching Frequency: 200-2200kHz; Max Supply Voltage: 40V; Min Supply Voltage: 3.2V; Output Type: AdjustableProgrammable; Max Junction Temp: +125°C; Number Of Outputs: 1; Nominal Supply Current: 3-8uA; Switching Topology: Buck; ComponentLink2URL: https://www.analog.com/media/en/technical-documentation/data-sheets/LTM8063.pdf; Height: 2.42mm; Temperature Range Low: -40°C; Mouser Description: Module DC-DC 1-OUT 0.8V to 15V 2A Automotive 28-Pin BGA Tray; Temperature Range High: +125°C; Octopart: https://octopart.com/ltm8063ey%23pbf-analog+devices-88947122; Category: IC; Device Class L3: Voltage Regulators - Switching; Output Voltage: 0.8-15V; Manufacturer Part Number: LTM8063EY#PBF; Package: BGA-28-05-08-1517; Automotive: No; RoHS: TRUE; Device Class L1: Integrated Circuits (ICs); Digikey Description: DC DC CONVERTER 0.8-15V; Ipc Land Pattern Name: BGA28C80P4X7_625X400X242; Lead Free: Yes; Temperature: -40°C to +125°C; Device Class L2: Power Management ICs; ComponentLink2Description: Datasheet
footprint FP-BGA-28-05-08-1517-MFG
footprint FP-BGA-28-05-08-1517-IPC_C
footprint FP-BGA-28-05-08-1517-IPC_B
footprint FP-BGA-28-05-08-1517-IPC_A
pins: A1 GND (power), A2 FB (in), A3 TR/SS (in), A4 GND (power), B1 PG (out), B2 SYNC (in), B3 RUN (in), B4 VIN (power), C1 RT (in), C2 GND (power), C3 GND (power), C4 VIN (power), D1 GND (power), D2 GND (power), D3 GND (power), D4 GND (power), E1 GND (power), E2 GND (power), E3 GND (power), E4 GND (power), F1 VOUT (out), F2 VOUT (out), F3 VOUT (out), F4 VOUT (out), G1 VOUT (out), G2 VOUT (out), G3 VOUT (out), G4 VOUT (out)

## CMP-12801-000100-1
designator Q?, comment DMN3190LDW-7
MOSFET 2N-CH 30V 1A SOT363; Manufacturer: Diodes; Turn-Off Delay Time: 30.3ns; Turn-On Delay Time: 4.5ns; Number of Channels: 2; Max Power Dissipation: 320mW; Input Capacitance: 87pF; Rds On Max: 190mR; FET Type: 2 N-Channel; Gate to Source Voltage (Vgs): 20V; Rise Time: 8.9ns; Element Configuration: Dual; Fall Time: 15.6ns; Number of Pins: 6; Width: 1.35mm; Package Quantity: 3000; Drain to Source Voltage (Vdss): 30V; Length: 2.2mm; Case/Package: SOT-363; Weight: 0.000212oz; Min Operating Temperature: -55°C; Lead Free: Lead Free; Height: 1mm; Radiation Hardening: No; Drain to Source Resistance: 190mR; Continuous Drain Current (ID): 1A; Mount: Surface Mount; Packaging: Tape and Reel; Max Operating Temperature: 150°C; Supplier 1: Arrow Electronics; Supplier Part Number 1: DMN3190LDW-7; Manufacturer Part Number: DMN3190LDW-7
footprint FP-SOT363-IPC_A
footprint FP-SOT363-IPC_B
footprint FP-SOT363-MFG
footprint FP-SOT363-IPC_C
part A pins: 1 S1, 2 G1, 6 D1
part B pins: 3 D2, 4 S2, 5 G2

## CMP-13271-001427-1
designator C?, comment CL21B106KQQNNNG  Capacitance: 10uF
CL21 Series 0805 10uF 6.3V ±10% Tolerance X7R Multilayer Ceramic Chip Capacitor; Manufacturer: Samsung; Min Operating Temperature: -55°C; Dielectric: X7R; Voltage Rating: 6.3V; Case/Package: 0805; Height: 1.25mm; Case Code (Metric): 2012; Tolerance: 10%; Packaging: Tape and Reel; Thickness: 0.055inch; Voltage: 6.3V; Max Operating Temperature: 125°C; Lead Free: Lead Free; Package Quantity: 3000; Case Code (Imperial): 0805; Depth: 1.25mm; Width: 0.049inch; Length: 2mm; Mount: Surface Mount; Manufacturer Part Number: CL21B106KQQNNNG
footprint FP-CL21-IPC_C
footprint FP-CL21-IPC_B
footprint FP-CL21-IPC_A
pins: 1, 2

## CMP-13271-003818-1
designator C?, comment CL32B226MOJNNNE  Capacitance: 22uF
Cap Ceramic 22uF 16V X7R ±20% SMD 1210 +125°C Embossed T/R; Manufacturer: Samsung; Mount: Surface Mount; Case/Package: 1210; Case Code (Imperial): 1210; Depth: 2.5mm; Packaging: Tape and Reel; Case Code (Metric): 3225; Package Quantity: 1; Min Operating Temperature: -55°C; Dielectric: X7R; Height: 2.5mm; Length: 3.2mm; Max Operating Temperature: 125°C; Thickness: 0.106inch; Width: 0.098inch; Tolerance: 20%; Voltage Rating: 16V; Radiation Hardening: No; Manufacturer Part Number: CL32B226MOJNNNE
footprint FP-CL32-IPC_A
footprint FP-CL32-IPC_C
footprint FP-CL32-IPC_B
pins: 1, 2

## CRCW04020000Z0ED
designator R?  ValueDisplayed: 0  (hidden comment: CRCW04020000Z0ED)
RES, 0, 5%, 0.063 W, 0402; Manufacturer: Vishay-Dale; CompType: Resistor; Value: 0; Value_Code: 0000; Tolerance_%: 5; Power_W: 0.063; Value2: 0.063W; VDC_V: 50; TempCo: 200 ppm/C; SizeArea_mm2: 0.5; SizeX_mm: 1; SizeZ_mm: 0.6; EIA_Code: E24; U/M: EA; AEC Category: Q200; SymbolVersion: 2009-05-29; PartNumber: CRCW04020000Z0ED; PackageReference: 0402; RoHS: Y; Res_ohm: 0; Value1: 5%; MountType: SMT; Technology: Thick Film; SizeY_mm: 0.5; Published: 2008-06-26; Publisher: Texas Instruments; LatestRevisionDate: 2016-07-14; ComponentLink1Description: Datasheet link; ComponentLink1URL: http://www.vishay.com/docs/20035/dcrcwe3.pdf; Supplier 1: Digi-Key; Supplier Part Number 1: 541-0.0JCT-ND; Supplier 2: Mouser; Supplier Part Number 2: 71-CRCW0402-0-E3; Supplier 3: Farnell; Supplier Part Number 3: 1469661; AEC Qualified: ?
signal-integrity model Resistor
simulation model Resistor
footprint RESC1005X40X25NL05T05 (Chip Resistor, 2-Leads, Body 1.05x0.55mm, IPC Medium Density)
footprint FP-CRCW0402-e3-IPC_B
pins: 1, 2

## CRCW04020000Z0ED_1
designator R?  value 392
RES, 0, 5%, 0.063 W, 0402; CompType: Resistor; Res_ohm: 0; Value_Code: 0000; Tolerance_%: 5; Power_W: 0.063; Value2: 0.063W; VDC_V: 50; TempCo: 200 ppm/C; SizeArea_mm2: 0.5; SizeX_mm: 1; SizeZ_mm: 0.6; EIA_Code: E24; U/M: EA; AEC Category: Q200; SymbolVersion: 2009-05-29; PackageReference: 0402; RoHS: Y; Value1: 5%; MountType: SMT; Technology: Thick Film; SizeY_mm: 0.5; Published: 2008-06-26; Publisher: Texas Instruments; LatestRevisionDate: 2016-07-14; ComponentLink1Description: Datasheet link; ComponentLink1URL: http://www.vishay.com/docs/20035/dcrcwe3.pdf; AEC Qualified: ?
signal-integrity model Resistor
simulation model Resistor
footprint RESC1005X40X25NL05T05 (Chip Resistor, 2-Leads, Body 1.05x0.55mm, IPC Medium Density)
footprint FP-CRCW0402-e3-IPC_B
pins: 1, 2

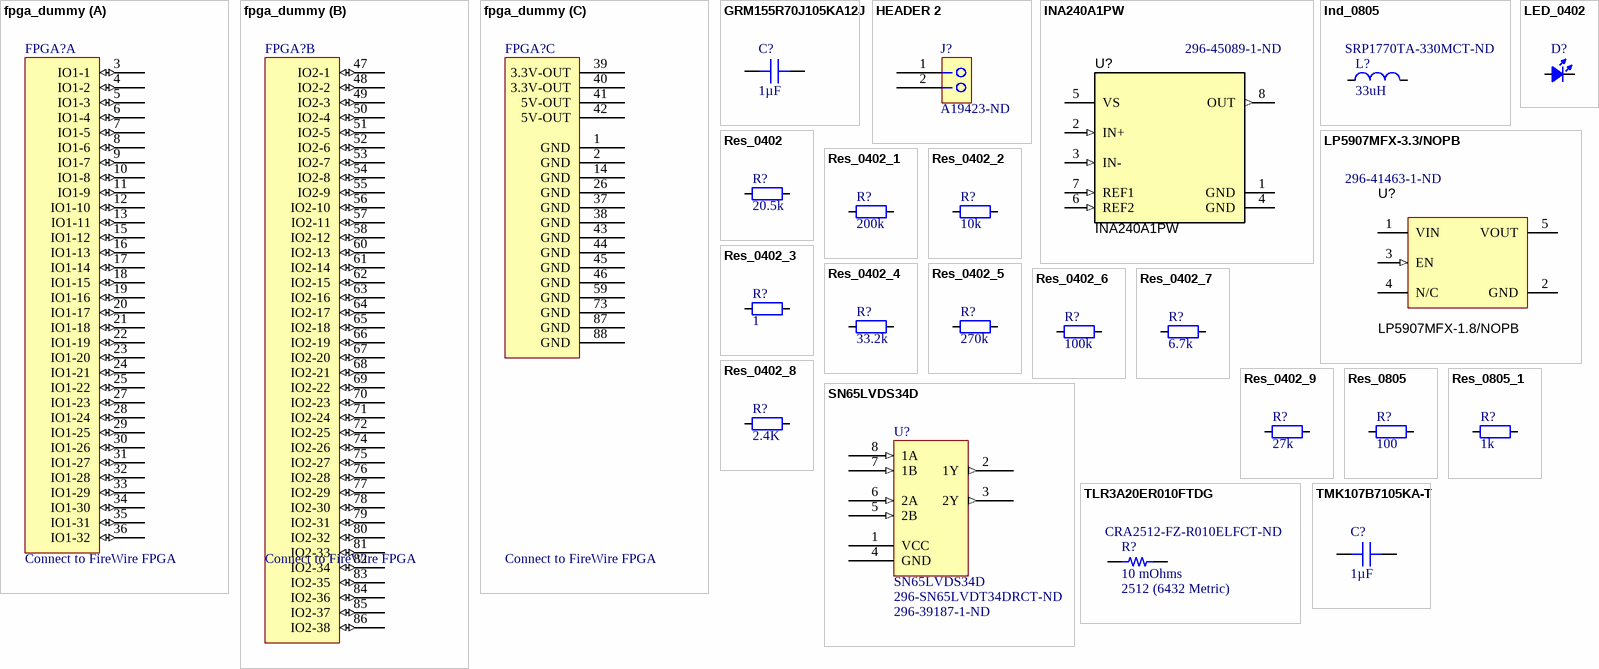
[diagram p1: symbols fpga_dummy to TMK107B7105KA-T]

## fpga_dummy
designator FPGA?, comment Connect to FireWire FPGA
ClassName: noclearancecheck
footprint FPGA-dummy
part A pins: 3 IO1-1 (io), 4 IO1-2 (io), 5 IO1-3 (io), 6 IO1-4 (io), 7 IO1-5 (io), 8 IO1-6 (io), 9 IO1-7 (io), 10 IO1-8 (io), 11 IO1-9 (io), 12 IO1-10 (io), 13 IO1-11 (io), 15 IO1-12 (io), 16 IO1-13 (io), 17 IO1-14 (io), 18 IO1-15 (io), 19 IO1-16 (io), 20 IO1-17 (io), 21 IO1-18 (io), 22 IO1-19 (io), 23 IO1-20 (io), 24 IO1-21 (io), 25 IO1-22 (io), 27 IO1-23 (io), 28 IO1-24 (io), 29 IO1-25 (io), 30 IO1-26 (io), 31 IO1-27 (io), 32 IO1-28 (io), 33 IO1-29 (io), 34 IO1-30 (io), 35 IO1-31 (io), 36 IO1-32 (io)
part B pins: 47 IO2-1 (io), 48 IO2-2 (io), 49 IO2-3 (io), 50 IO2-4 (io), 51 IO2-5 (io), 52 IO2-6 (io), 53 IO2-7 (io), 54 IO2-8 (io), 55 IO2-9 (io), 56 IO2-10 (io), 57 IO2-11 (io), 58 IO2-12 (io), 60 IO2-13 (io), 61 IO2-14 (io), 62 IO2-15 (io), 63 IO2-16 (io), 64 IO2-17 (io), 65 IO2-18 (io), 66 IO2-19 (io), 67 IO2-20 (io), 68 IO2-21 (io), 69 IO2-22 (io), 70 IO2-23 (io), 71 IO2-24 (io), 72 IO2-25 (io), 74 IO2-26 (io), 75 IO2-27 (io), 76 IO2-28 (io), 77 IO2-29 (io), 78 IO2-30 (io), 79 IO2-31 (io), 80 IO2-32 (io), 81 IO2-33 (io), 82 IO2-34 (io), 83 IO2-35 (io), 84 IO2-36 (io), 85 IO2-37 (io), 86 IO2-38 (io)
part C pins: 1 GND (power), 2 GND (power), 14 GND (power), 26 GND (power), 37 GND (power), 38 GND (power), 39 3.3V-OUT (power), 40 3.3V-OUT (power), 41 5V-OUT (power), 42 5V-OUT (power), 43 GND (power), 44 GND (power), 45 GND (power), 46 GND (power), 59 GND (power), 73 GND (power), 87 GND (power), 88 GND (power)

## GRM155R70J105KA12J
designator C?, comment 1µF
CAP CER 1UF 6.3V X7R 0402; Part Number: GRM155R70J105KA12J; Manufacturer: Murata Electronics; Tolerance: ±10%; Value: 1µF; Applications: General Purpose; Capacitance: 1µF; ComponentLink1Description: Datasheet; ComponentLink1URL: https://search.murata.co.jp/Ceramy/image/img/A01X/G101/ENG/GRM155R70J105KA12-01.pdf; ComponentLink2Description: DigiKey Link; ComponentLink2URL: http://digikey.com/product-detail/en/murata-electronics/GRM155R70J105KA12J/490-13339-1-ND/5973350; Device Package: 0402 (1005 Metric); LastUpdated: 9/2/2020 1:02:22 AM; Lifecycle Status: Active; Minimum Order: 1; Mounting Type: Surface Mount, MLCC; Operating Temperature: -55°C ~ 125°C; Package / Case: 0402 (1005 Metric); Packaging: TapeAndReel; PartId: 2890; Part Status: Active; Price: 0.01; Series: GRM; Size / Dimension: 0.039" L x 0.020" W (1.00mm x 0.50mm); Supplier 1: DigiKey; Supplier Part Number 1: 490-13339-1-ND; Temperature Coefficient: X7R; Thickness (Max): 0.022" (0.55mm); Voltage - Rated: 6.3V
footprint CAP 0402_1005
footprint FP-GRM155-0_05-IPC_B
pins: 1, 2

## HEADER 2
designator J?, comment Supplier Part Number 1: A19423-ND  (hidden comment: Substitute with tyco 640457-2)
TE Connectivity MTA-100 Series, 2.54mm Pitch 2 Way 1 Row Straight PCB Header, Solder Termination, 5A; system: connector; Voltage Rating: 250V; Number of Contacts: 2; Plating Thickness: 3.81um; Shrouded: No (Without); Contact Resistance: 6mR; Gender: Male; Underplate Material: Nickel; Connector Type: Plug,Header,Pin; Connector System: Wire-to-Board; PCB Mount Retention: Without; PCB Mounting Orientation: Vertical; Contact Post Length: 3.56mm; PCB Thickness: 0.063inch; Approvals: CSA; Manufacturer: TE Connectivity; Manufacturer Part Number: 640457-2; Stock 1: 10901; Pricing 1: 1=0.14, 10=0.127, 100=0.0783, 500=0.06482, 1000=0.05672, 5000=0.04862, 10000=0.04727 (USD); Mount: Through Hole; Colour: White,Natural,Beige; Contact Plating: Tin; Min Operating Temperature: -67°C; Max Operating Temperature: 221°C; Packaging: Bulk; Fastening Type: Friction; Current Rating: 5A; Contact Gender: Male; Termination: Solder; Orientation: Right Angle; Contact Current Rating: 5A; Max Voltage Rating (AC): 250V; Contact Mating Length: 0.295inch; Termination Post Length: 3.56mm; Depth: 11.04mm; Radiation Hardening: No; Flammability Rating: UL94 V-0; ELV: Compliant; Lead Free: Lead Free; REACH SVHC: Unknown; ComponentLink1URL: https://datasheet.ciiva.com/709/eng-cd-640457-s2-709682.pdf; ComponentLink1Description: https://datasheet.ciiva.com/709/eng-cd-640457-s2-709682.pdf; ComponentLink2URL: https://datasheet.ciiva.com/14640/70083657-14640359.pdf; ComponentLink2Description: https://datasheet.ciiva.com/14640/70083657-14640359.pdf; ComponentLink3URL: https://datasheet.ciiva.com/3118/eng-ds-82056-mta-0608-3118505.pdf; ComponentLink3Description: https://datasheet.ciiva.com/3118/eng-ds-82056-mta-0608-3118505.pdf; ComponentLink4URL: https://datasheet.ciiva.com/11750/0900766b806a960f-11750281.pdf; ComponentLink4Description: https://datasheet.ciiva.com/11750/0900766b806a960f-11750281.pdf; ComponentLink5URL: https://datasheet.ciiva.com/30192/8852eng-ds-82056-mta-0608-30192537.pdf; ComponentLink5Description: https://datasheet.ciiva.com/30192/8852eng-ds-82056-mta-0608-30192537.pdf; ComponentLink6URL: https://datasheet.ciiva.com/16395/eng-ds-82056-mta-0608-16395963.pdf; ComponentLink6Description: https://datasheet.ciiva.com/16395/eng-ds-82056-mta-0608-16395963.pdf; ComponentLink7URL: https://datasheet.ciiva.com/25618/0900766b80e9e25b-25618125.pdf; ComponentLink7Description: https://datasheet.ciiva.com/25618/0900766b80e9e25b-25618125.pdf; ComponentLink8URL: https://datasheet.ciiva.com/16505/eng-ds-82056-mta-0608-16505423.pdf; ComponentLink8Description: https://datasheet.ciiva.com/16505/eng-ds-82056-mta-0608-16505423.pdf; ComponentLink9URL: https://datasheet.ciiva.com/16656/eng-ds-82056-mta-0608-16656527.pdf; ComponentLink9Description: https://datasheet.ciiva.com/16656/eng-ds-82056-mta-0608-16656527.pdf; RoHS: Yes; Category: Connectors; Stock 2: 28315; Pricing 2: 1=0.10000, 10=0.09400, 100=0.05800, 500=0.04802, 1000=0.04202, 5000=0.03601, 10000=0.03501 (USD); Contact Material: Copper Alloy; Color: Natural,White,Beige; Housing Color: Natural; Housing Material: Polyester; Contact Shape: Square; Number of Rows: 1; Package Quantity: 1; Number of Positions: 2; Backwall/Post Interruptions: No (Without); Contact Retention: No (Without); Mating Alignment: No (Without); Mating Retention: No (Without); PCB Mount Alignment: No (Without); Sealable: No (Without); Strain Relief: No (Without); Contact Style: Straight; Series: MTA-100; Contact Type: Male Pin; Length: 5.08mm; Height: 7.75mm; Pitch: 2.54mm; Tail Length: 3.56mm; RoHS Compliant: Yes; ComponentLink10URL: https://datasheet.ciiva.com/15175/getdatasheetpartid-46749-15175703.pdf?src-supplier=Verical; ComponentLink10Description: https://datasheet.ciiva.com/15175/getdatasheetpartid-46749-15175703.pdf?src-supplier=Verical; ComponentLink11URL: https://datasheet.ciiva.com/16394/eng-ds-82056-mta-0608-16394202.pdf?src-supplier=Future+Electronics; ComponentLink11Description: https://datasheet.ciiva.com/16394/eng-ds-82056-mta-0608-16394202.pdf?src-supplier=Future+Electronics; ComponentLink12URL: https://datasheet.ciiva.com/6045/1650873-6045536.pdf?src-supplier=Farnell; ComponentLink12Description: https://datasheet.ciiva.com/6045/1650873-6045536.pdf?src-supplier=Farnell; ComponentLink13URL: https://datasheet.ciiva.com/11746/0900766b806b3bd3-11746906.pdf?src-supplier=RSComponents; ComponentLink13Description: https://datasheet.ciiva.com/11746/0900766b806b3bd3-11746906.pdf?src-supplier=RSComponents; ComponentLink14URL: https://datasheet.ciiva.com/7703/eng-ds-82056-mta-0608-7703518.pdf?src-supplier=Element14; ComponentLink14Description: https://datasheet.ciiva.com/7703/eng-ds-82056-mta-0608-7703518.pdf?src-supplier=Element14; ComponentLink15URL: https://datasheet.ciiva.com/3118/eng-ds-82056-mta-0608-3118490.pdf?src-supplier=Avnet; ComponentLink15Description: https://datasheet.ciiva.com/3118/eng-ds-82056-mta-0608-3118490.pdf?src-supplier=Avnet; ComponentLink16URL: https://datasheet.ciiva.com/709/eng-cd-640454-y2-709679.pdf?src-supplier=Digi-Key; ComponentLink16Description: https://datasheet.ciiva.com/709/eng-cd-640454-y2-709679.pdf?src-supplier=Digi-Key; ComponentLink17URL: https://datasheet.ciiva.com/16684/eng-ds-82056-mta-0608-16684984.pdf?src-supplier=Avnet+Europe; ComponentLink17Description: https://datasheet.ciiva.com/16684/eng-ds-82056-mta-0608-16684984.pdf?src-supplier=Avnet+Europe; Supplier 1: Digi-Key
footprint HDR-2x1-100 (Footprint not found)
pins: 1, 2

## INA240A1PW
designator U?  Supplier Part Number 1: 296-45089-1-ND
TEXAS INSTRUMENTS - INA240A1PWR . - CURRENT SENSE AMPLIFIER, 400KHZ, TSSOP-8; SymbolCreator: Altium; CompType: IC; U/M: EA; Number of Circuits: 1; Slew Rate: 2V/µs; Input Bias Current: 90uA; Input Offset Voltage (Vos): 5uV; Operating Supply Current: 1.8mA; SymbolVersion: 2016-01-07; PartNumber: INA240A1PW; PackageReference: PW0008A; MountType: SMT; ComponentLink1Description: Datasheet Link; ComponentLink1URL: https://sps06.itg.ti.com/sites/KMS/crossdivteams/altium/docs/ComponentDatasheets/INA240 Prelim DS - 9-15-15.pdf; Publisher: Texas Instruments; LatestRevisionDate: 2016-03-14; Manufacturer: Texas Instruments; Alternate Manufacturer: Texas Instruments; Manufacturer Part Number: INA240A1PWR; Category: Amplifiers - Op Amps, Buffer, Instrumentation; Stock 1: 14825; Pricing 1: 1=2.78000, 10=2.50000, 50=2.37000, 100=1.95000, 1000=1.40000, 10000=1.34000 (USD); Mount: Surface Mount; Case/Package: TSSOP; Min Operating Temperature: -40°C; Max Operating Temperature: 125°C; Packaging: Tape and Reel; -3db Bandwidth: 400kHz; RoHS Compliant: Yes; Lead Free: Lead Free; ComponentLink2URL: http://www.ti.com/lit/ds/symlink/ina240.pdf?src-supplier=Farnell; ComponentLink2Description: http://www.ti.com/lit/ds/symlink/ina240.pdf?src-supplier=Farnell; ComponentLink3URL: http://www.ti.com/lit/ds/symlink/ina240.pdf?src-supplier=Digi-Key; ComponentLink3Description: http://www.ti.com/lit/ds/symlink/ina240.pdf?src-supplier=Digi-Key; ComponentLink4URL: http://www.ti.com/lit/ds/symlink/ina240.pdf?src-supplier=Newark; ComponentLink4Description: http://www.ti.com/lit/ds/symlink/ina240.pdf?src-supplier=Newark; Supplier 1: Digi-Key; Supplier 2: Mouser; Supplier Part Number 2: 595-INA240A1PWR
footprint PW0008A_N (SOP, 8-Leads, Body 4.5x3.1mm, Pitch 0.65mm, IPC Medium Density)
footprint PW0008A_M
footprint PW0008A_L
pins: 1 GND (power), 2 IN+ (in), 3 IN- (in), 4 GND (power), 5 VS (power), 6 REF2 (in), 7 REF1 (in), 8 OUT (out)